# Altium schematic symbol library RGBVdd connector.SchLib: 1 symbol
Pins are listed as number, name and electrical type; pins without a type are passive.

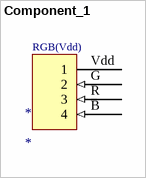
[diagram p0: symbol Component_1]

## Component_1
designator *
footprint PCBComponent_1
pins: B 4 (in), G 2 (in), R 3 (in), Vdd 1 (power)
text: RGB(Vdd)